# EAGLE library part PICOLO (library Picolo)
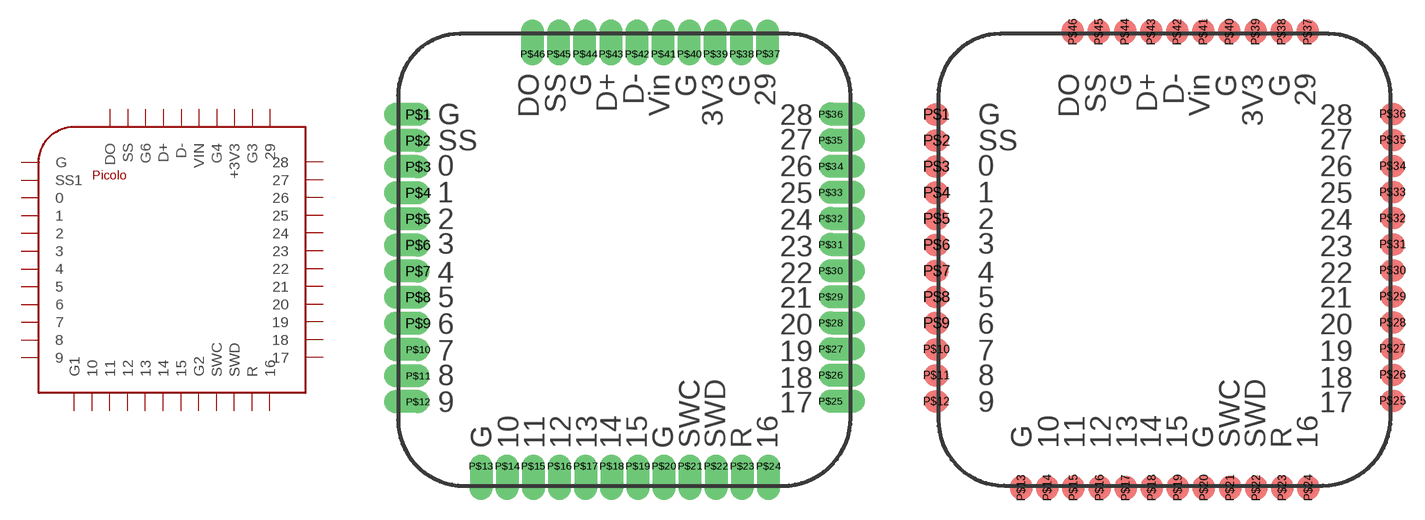
[diagram p0: symbol with the pads of PICOLO_V1-SMD/THT; footprints PICOLO_V1-SMD/THT, PICOLO_V1-SMD]

Designator prefix -

## PICOLOSMD/THT  [PICOLO_V1-SMD/THT]
P$1  G
P$2  SS1
P$3  0
P$4  1
P$5  2
P$6  3
P$7  4
P$8  5
P$9  6
P$10  7
P$11  8
P$12  9
P$13  G1
P$14  10
P$15  11
P$16  12
P$17  13
P$18  14
P$19  15
P$20  G2
P$21  SWC
P$22  SWD
P$23  R
P$24  16
P$25  17
P$26  18
P$27  19
P$28  20
P$29  21
P$30  22
P$31  23
P$32  24
P$33  25
P$34  26
P$35  27
P$36  28
P$37  29
P$38  G3
P$39  +3V3
P$40  G4
P$41  VIN
P$42  D-
P$43  D+
P$44  G6
P$45  SS
P$46  DO

## PICOLOSMD  [PICOLO_V1-SMD]
Pads as for PICOLO_V1-SMD/THT

## PICOLOSMD/THT-NOPIN  [PICOLO_V1-SMD/THT-NOPIN]
Pads as for PICOLO_V1-SMD/THT

## Footprint PICOLO_V1-SMD/THT (pad centres in mm)
drill 0.6 offset: P$1 0.97,-3.93; P$2 0.97,-5.2; P$3 0.97,-6.47; P$4 0.97,-7.74; P$5 0.97,-9.01; P$6 0.97,-10.28; P$7 0.97,-11.55; P$8 0.97,-12.82; P$9 0.97,-14.09; P$10 0.97,-15.36; P$11 0.97,-16.64; P$12 0.97,-17.9; P$13 4.03,-21.03; P$14 5.3,-21.03; P$15 6.57,-21.03; P$16 7.84,-21.03; P$17 9.11,-21.03; P$18 10.38,-21.03; P$19 11.65,-21.03; P$20 12.92,-21.03; P$21 14.19,-21.03; P$22 15.46,-21.03; P$23 16.73,-21.03; P$24 18,-21.03; P$25 21.03,-17.87; P$26 21.03,-16.6; P$27 21.03,-15.33; P$28 21.03,-14.06; P$29 21.03,-12.79; P$30 21.03,-11.52; P$31 21.03,-10.25; P$32 21.03,-8.98; P$33 21.03,-7.71; P$34 21.03,-6.44; P$35 21.03,-5.17; P$36 21.03,-3.9; P$37 17.97,-0.96; P$38 16.7,-0.97; P$39 15.43,-0.97; P$40 14.16,-0.97; P$41 12.89,-0.97; P$42 11.62,-0.97; P$43 10.35,-0.97; P$44 9.08,-0.97; P$45 7.81,-0.97; P$46 6.54,-0.97

## Footprint PICOLO_V1-SMD (pad centres in mm)
smd 1.2 x 1.1: P$1 -0.1,-3.93; P$2 -0.1,-5.2; P$3 -0.1,-6.47; P$4 -0.1,-7.74; P$5 -0.1,-9.01; P$6 -0.1,-10.28; P$7 -0.1,-11.55; P$8 -0.1,-12.82; P$9 -0.1,-14.09; P$10 -0.1,-15.36; P$11 -0.1,-16.63; P$12 -0.1,-17.9; P$25 22.1,-17.87; P$26 22.1,-16.6; P$27 22.1,-15.33; P$28 22.1,-14.06; P$29 22.1,-12.79; P$30 22.1,-11.52; P$31 22.1,-10.25; P$32 22.1,-8.98; P$33 22.1,-7.71; P$34 22.1,-6.44; P$35 22.1,-5.17; P$36 22.1,-3.9
smd 1.1 x 1.2: P$13 4.03,-22.1; P$14 5.3,-22.1; P$15 6.57,-22.1; P$16 7.84,-22.1; P$17 9.11,-22.1; P$18 10.38,-22.1; P$19 11.65,-22.1; P$20 12.92,-22.1; P$21 14.19,-22.1; P$22 15.46,-22.1; P$23 16.73,-22.1; P$24 18,-22.1; P$37 17.97,0.1; P$38 16.7,0.1; P$39 15.43,0.1; P$40 14.16,0.1; P$41 12.89,0.1; P$42 11.62,0.1; P$43 10.35,0.1; P$44 9.08,0.1; P$45 7.81,0.1; P$46 6.54,0.1

## Footprint PICOLO_V1-SMD/THT-NOPIN (pad centres in mm)
drill 0.6 offset: P$1 0.97,-3.93; P$2 0.97,-5.2; P$3 0.97,-6.47; P$4 0.97,-7.74; P$5 0.97,-9.01; P$6 0.97,-10.28; P$7 0.97,-11.55; P$8 0.97,-12.82; P$9 0.97,-14.09; P$10 0.97,-15.36; P$11 0.97,-16.64; P$12 0.97,-17.9; P$13 4.03,-21.03; P$14 5.3,-21.03; P$15 6.57,-21.03; P$16 7.84,-21.03; P$17 9.11,-21.03; P$18 10.38,-21.03; P$19 11.65,-21.03; P$20 12.92,-21.03; P$21 14.19,-21.03; P$22 15.46,-21.03; P$23 16.73,-21.03; P$24 18,-21.03; P$25 21.03,-17.87; P$26 21.03,-16.6; P$27 21.03,-15.33; P$28 21.03,-14.06; P$29 21.03,-12.79; P$30 21.03,-11.52; P$31 21.03,-10.25; P$32 21.03,-8.98; P$33 21.03,-7.71; P$34 21.03,-6.44; P$35 21.03,-5.17; P$36 21.03,-3.9; P$37 17.97,-0.96; P$38 16.7,-0.97; P$39 15.43,-0.97; P$40 14.16,-0.97; P$41 12.89,-0.97; P$42 11.62,-0.97; P$43 10.35,-0.97; P$44 9.08,-0.97; P$45 7.81,-0.97; P$46 6.54,-0.97